# Altium schematic symbol library BZT52C12T-7.SchLib: 1 symbol
Pins are listed as number, name and electrical type; pins without a type are passive.

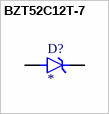
[diagram p0: symbol BZT52C12T-7]

## BZT52C12T-7
designator D?
Zener Diode 12 V 500 mW Â±5% Surface Mount SOD-523; MF: onsemi; MP: MM5Z15VT1G; SnapEDA_Link: https://www.snapeda.com/parts/MM5Z15VT1G/Onsemi/view-part/?ref=snap; Package: None; Value: *; Check_prices: https://www.snapeda.com/parts/MM5Z15VT1G/Onsemi/view-part/?ref=eda
footprint SODFL1608X70N
pins: 1 K, 2 A